# Altium schematic symbol library BM1397_TESTBED.SchLib: 15 symbols
Pins are listed as number, name and electrical type; pins without a type are passive.

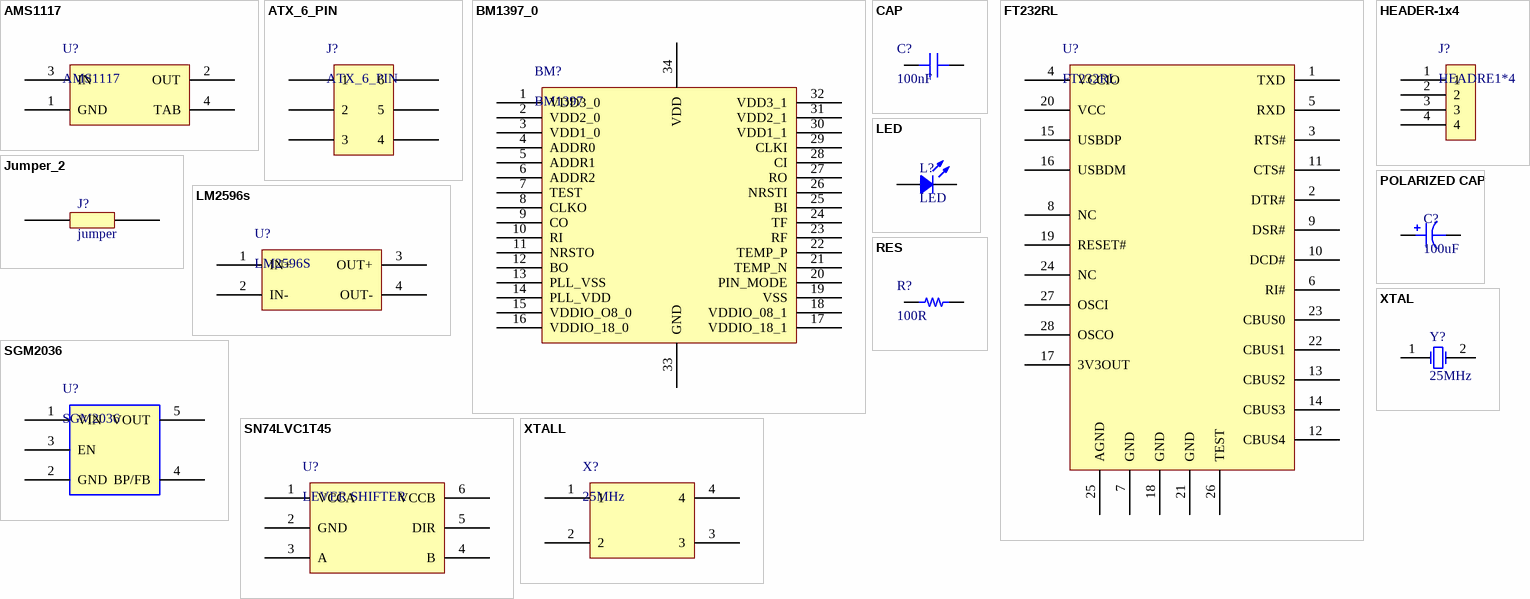
[diagram p0: symbols AMS1117 to XTALL]

## AMS1117
designator U?
footprint AMS1117
pins: 1 GND, 2 OUT, 3 IN, 4 TAB

## ATX_6_PIN
designator J?
ATX PWR CONN 6 PIN
footprint ATX 6
pins: 1, 2, 3, 4, 5, 6

## BM1397_0
designator BM?, comment BM1397
footprint Connector
pins: 1 VDD3_0, 2 VDD2_0, 3 VDD1_0, 4 ADDR0, 5 ADDR1, 6 ADDR2, 7 TEST, 8 CLKO, 9 CO, 10 RI, 11 NRSTO, 12 BO, 13 PLL_VSS, 14 PLL_VDD, 15 VDDIO_O8_0, 16 VDDIO_18_0, 17 VDDIO_18_1, 18 VDDIO_08_1, 19 VSS, 20 PIN_MODE, 21 TEMP_N, 22 TEMP_P, 23 RF, 24 TF, 25 BI, 26 NRSTI, 27 RO, 28 CI, 29 CLKI, 30 VDD1_1, 31 VDD2_1, 32 VDD3_1, 33 GND, 34 VDD

## CAP
designator C?, comment 100nF
footprint CAP-SMD-0402
footprint CAP_SMD_1206
footprint CAP_SMD_0805
pins: 1, 2

## FT232RL
designator U?
footprint SSOP
pins: 1 TXD, 2 DTR#, 3 RTS#, 4 VCCIO, 5 RXD, 6 RI#, 7 GND, 8 NC, 9 DSR#, 10 DCD#, 11 CTS#, 12 CBUS4, 13 CBUS2, 14 CBUS3, 15 USBDP, 16 USBDM, 17 3V3OUT, 18 GND, 19 RESET#, 20 VCC, 21 GND, 22 CBUS1, 23 CBUS0, 24 NC, 25 AGND, 26 TEST, 27 OSCI, 28 OSCO

## HEADER-1x4
designator J?, comment HEADRE1*4
footprint HEADER-1x4
pins: 1, 2, 3, 4

## Jumper_2
designator J?, comment jumper
footprint jumper_2pin
pins: 1, 2

## LED
designator L?
footprint LED-SMD-0805
pins: 1, 2

## LM2596s
designator U?, comment LM2596S
DC-DC CONVERTER
footprint LM2596S
pins: 1 IN+, 2 IN-, 3 OUT+, 4 OUT-

## POLARIZED CAP
designator C?, comment 100uF
footprint CAP-TAN-CASE-B
footprint CAP-TAN-CASE-E
footprint CAP-TAN-CASE-A
footprint CAP_POL
pins: 1, 2

## RES
designator R?, comment 100R
footprint RES-SMD-1210
footprint RES-SMD-1206
footprint RES-SMD-0402
footprint RES-SMD-0603
pins: 1, 2

## SGM2036
designator U?
footprint SOT23-5PIN
pins: 1 VIN, 2 GND, 3 EN, 4 BP/FB, 5 VOUT

## SN74LVC1T45
designator U?, comment LEVER SHIFTER
footprint SOT23-6PIN
pins: 1 VCCA, 2 GND, 3 A, 4 B, 5 DIR, 6 VCCB

## XTAL
designator Y?, comment 25MHz
Crystal Oscillator; Published: 8-Jun-2000; LatestRevisionDate: 17-Jul-2002; LatestRevisionNote: Re-released for DXP Platform.; PackageReference: R38; Publisher: Altium Limited; PackageDescription: Crystal, Thru-Hole; 2 Leads; Body 3.1 x 8.2 mm (Dia.xH); Value: 25MHz
footprint XTALL
pins: 1 OSC1, 2 OSC2

## XTALL
designator X?, comment 25MHz
footprint XTALL
pins: 1, 2, 3, 4